# Altium schematic symbol library ADS9324RSKR.SchLib: 1 symbol
Pins are listed as number, name and electrical type; pins without a type are passive.

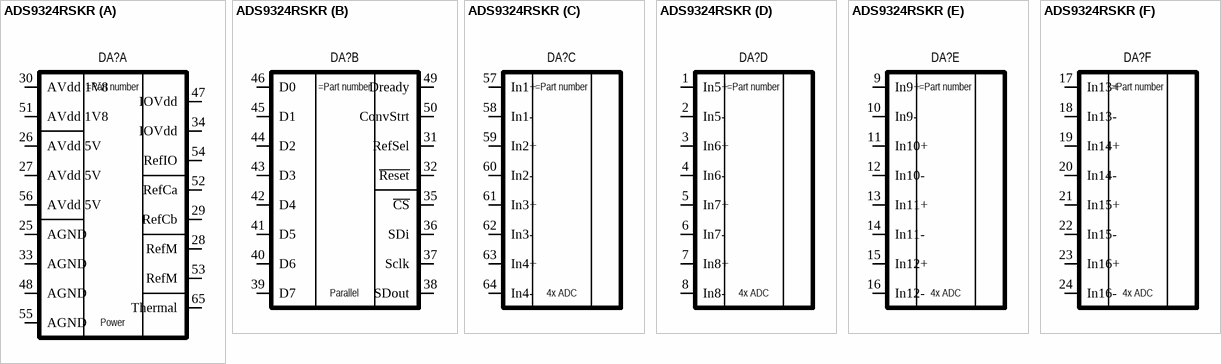
[diagram p0: symbol ADS9324RSKR]

## ADS9324RSKR
designator DA?
16-Bit, High-Speed, 8-Channel, Simultaneous-Sampling ADC with Bipolar Inputs on a Single Supply
part A pins: 25 AGND, 26 AVdd 5V, 27 AVdd 5V, 28 RefM, 29 RefCb, 30 AVdd 1V8, 33 AGND, 34 IOVdd, 47 IOVdd, 48 AGND, 51 AVdd 1V8, 52 RefCa, 53 RefM, 54 RefIO, 55 AGND, 56 AVdd 5V, 65 Thermal
part B pins: 31 RefSel, 32 ~{Reset}, 35 ~{CS}, 36 SDi, 37 Sclk, 38 SDout, 39 D7, 40 D6, 41 D5, 42 D4, 43 D3, 44 D2, 45 D1, 46 D0, 49 Dready, 50 ConvStrt
part C pins: 57 In1+, 58 In1-, 59 In2+, 60 In2-, 61 In3+, 62 In3-, 63 In4+, 64 In4-
part D pins: 1 In5+, 2 In5-, 3 In6+, 4 In6-, 5 In7+, 6 In7-, 7 In8+, 8 In8-
part E pins: 9 In9+, 10 In9-, 11 In10+, 12 In10-, 13 In11+, 14 In11-, 15 In12+, 16 In12-
part F pins: 17 In13+, 18 In13-, 19 In14+, 20 In14-, 21 In15+, 22 In15-, 23 In16+, 24 In16-
part A text: Power
part B text: Parallel
part C text: 4x ADC
part D text: 4x ADC
part E text: 4x ADC
part F text: 4x ADC